# Altium footprint library TFM252012ALVA2R2MTAA.PcbLib: 1 footprints
Each footprint in its own frame and in the unit in brackets; x right, y up, seen from the top. Pads: shape width x height; smd on the part's side, far side on the other; paste and mask are expansions set on the pad; w line width, h text height; cw(c..) or ccw(c..) is an arc to the next point about the centre after c.
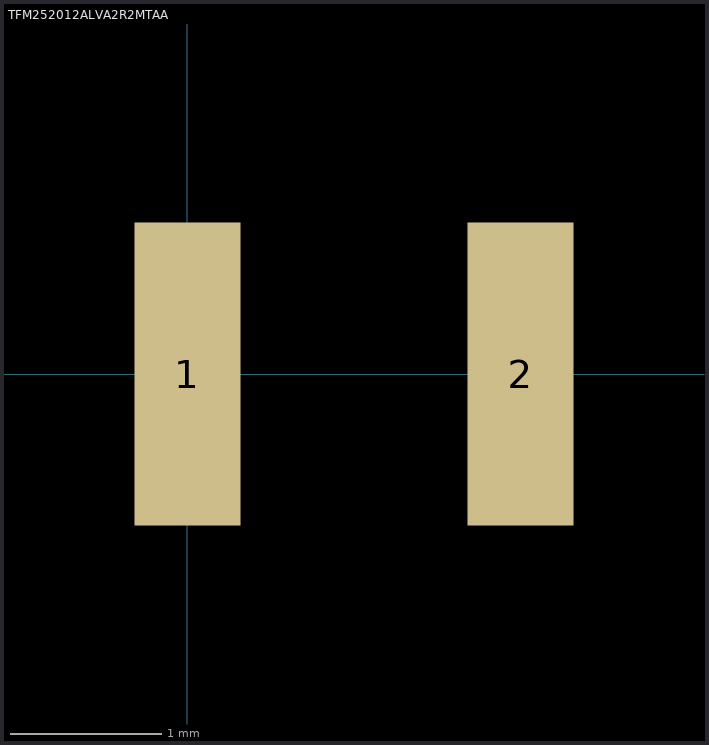
[diagram p0: the footprint, top view; thin cyan lines are the x and y axes]

## TFM252012ALVA2R2MTAA [mm] "Leistungsinduktivitäten – SMD 2.2uH 20% 84mOhm AEC-Q200"
height 1.2
pads (2):
  rect 0.7x2 smd: 1(0,0) 2(2.2,0)
3D body "TFM252012ALVA2R2MTAA.stp": height 1.2, standoff 0, extent -0.107,-1 2.393,1